# Altium schematic symbol library Transformer.SchLib: 4 symbols
Pins are listed as number, name and electrical type; pins without a type are passive.

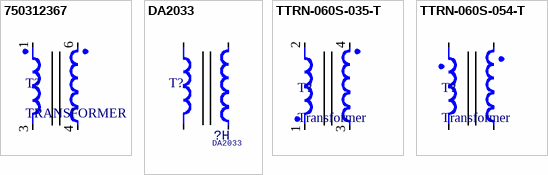
[diagram p0: symbols 750312367 to TTRN-060S-054-T]

## 750312367
designator T?, comment TRANSFORMER
footprint Wurth Transformer (750312367)
pins: 1, 3, 4, 6

## DA2033
designator T?, comment value ?H  Type: DA2033  (hidden comment: H1008)
Inductor; Specification: ±5% 100mA; Manufacturer: *
footprint DA2033
pins: 1, 2, 3, 4

## TTRN-060S-035-T
designator T?, comment Transformer
footprint TTRN-060S-035-T
pins: 1, 2, 3, 4

## TTRN-060S-054-T
designator T?, comment Transformer
footprint TTRN-060S-054-T
pins: 1, 2, 3, 4